# Altium schematic symbol library TC4427COA.Schlib: 1 symbol
Pins are listed as number, name and electrical type; pins without a type are passive.

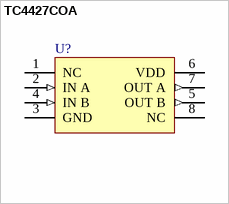
[diagram p0: symbol TC4427COA]

## TC4427COA
designator U?
1.5A Dual High-Speed Power MOSFET Drivers
pins: 1 NC, 2 IN A (in), 3 GND (power), 4 IN B (in), 5 OUT B (out), 6 VDD (power), 7 OUT A (out), 8 NC